# EAGLE library part ADUM1201 (library misc)
DIGITAL ISOLATORS GENERAL PURPOSE 2 1/1 UNIDIRECTIONAL 2500VRMS 1MBPS SOIC-8_150MIL ROHS
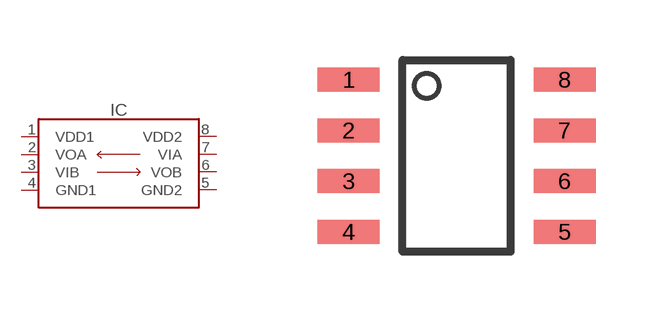
[diagram p16: symbol with the pads of SOIC8; footprint SOIC8]

Designator prefix IC

## ADUM1201 (LCSC#: C9669; MANF: Analog Devices; MANF#: ADUM1201ARZ-RL7)  [SOIC8]
1  VDD1
2  VOA
3  VIB
4  GND1
5  GND2
6  VOB
7  VIA
8  VDD2

## Footprint SOIC8 (pad centres in mm)
https://www.ti.com/lit/ds/snvsaq5a/snvsaq5a.pdf?ts=1602424164509
smd 1.55 x 0.6: 1 -2.7,1.905; 2 -2.7,0.635; 3 -2.7,-0.635; 4 -2.7,-1.905; 5 2.7,-1.905; 6 2.7,-0.635; 7 2.7,0.635; 8 2.7,1.905